# EAGLE library part 691321300008 (library Wuerth_Elektronik_eiCan_Terminal_Blocks_v2.0)
WR-TBL Serie 321 - 3.81mm Vertical PCB Header , 8 Pins
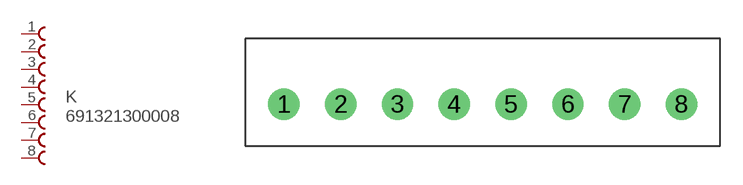
[diagram p19: symbol with the pads of 691321300008; footprint 691321300008]

Designator prefix K

## 691321300008  [691321300008]
1  1  pas
2  2  pas
3  3  pas
4  4  pas
5  5  pas
6  6  pas
7  7  pas
8  8  pas

## Footprint 691321300008 (pad centres in mm)
WR-TBL Serie 321 - 3.81mm Vertical PCB Header , 8 Pins
drill 1.4 round: 1 -11.43,0; 2 -7.62,0; 3 -3.81,0; 4 0,0; 5 3.81,0; 6 7.62,0; 7 11.43,0; 8 15.24,0